# EAGLE library part INA159 (library Lin-Temp-Controller)
INA159 Difference Amplifier, Texas Instruments
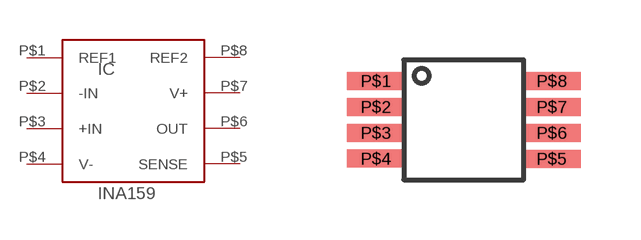
[diagram p4: symbol with the pads of VSSOP8; footprint VSSOP8]

Designator prefix IC

## INA159 (DIGIKEY: 296-18688-1-ND)  [VSSOP8]
P$1  REF1
P$2  -IN
P$3  +IN
P$4  V-  pwr
P$5  SENSE
P$6  OUT
P$7  V+  pwr
P$8  REF2

## Footprint VSSOP8 (pad centres in mm)
smd 1.45 x 0.45: P$1 -2.2,0.975; P$2 -2.2,0.325; P$3 -2.2,-0.325; P$4 -2.2,-0.972; P$5 2.2,-0.975; P$6 2.2,-0.325; P$7 2.2,0.325; P$8 2.2,0.975